# Altium footprint library PcbLib2.PcbLib: 16 footprints
Each footprint in its own frame and in the unit in brackets; x right, y up, seen from the top. Pads: shape width x height; smd on the part's side, far side on the other; paste and mask are expansions set on the pad; w line width, h text height; cw(c..) or ccw(c..) is an arc to the next point about the centre after c.
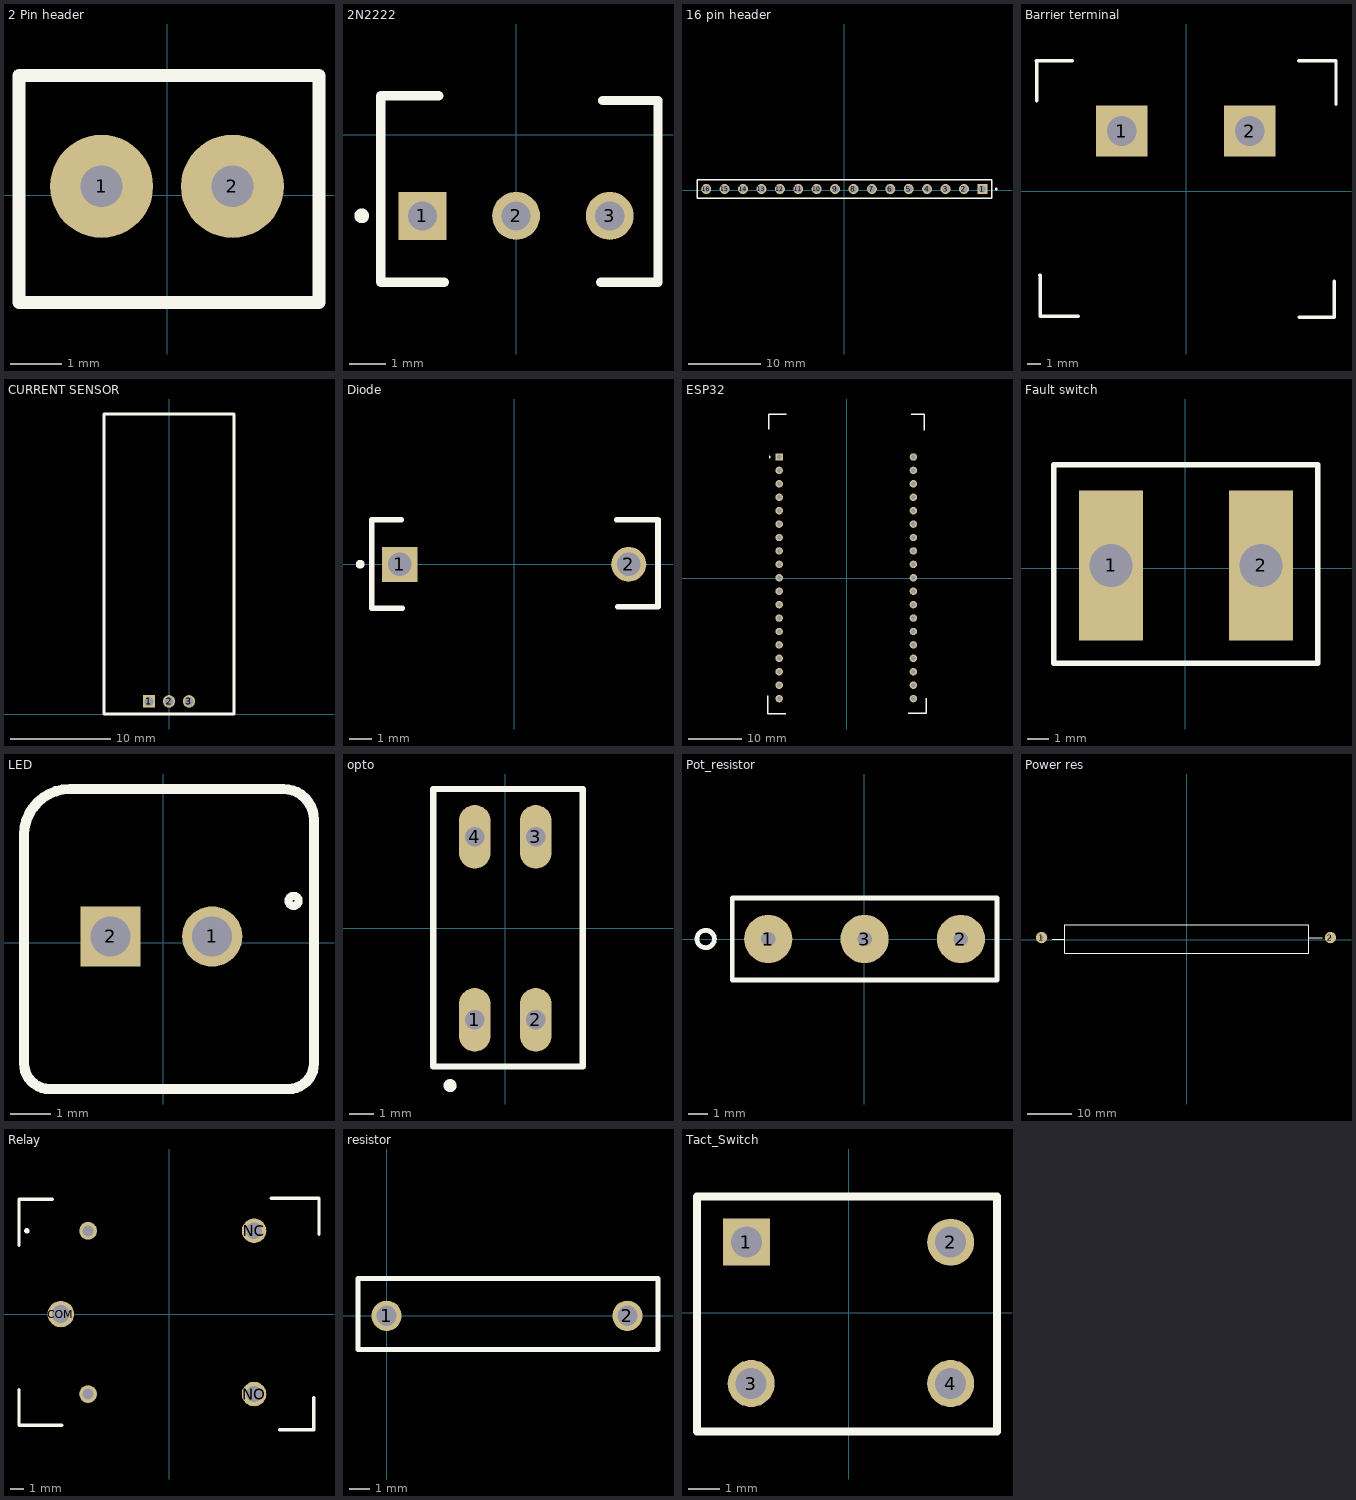
[diagram p0: the footprints below, top view; thin cyan lines are the x and y axes]

## 2 Pin header [mm]
pads (2):
  round 2 hole 0.813: 1(-1.27,0.177) 2(1.27,0.177)
Top Overlay:
  lines w0.254: -2.875,-2.075 2.95,-2.075 2.95,2.325 -2.875,2.325 -2.875,-2.075
MECH 29:
  text ".Designator" at -7.121,-0.313 h1.52

## 2N2222 [mm]
pads (3):
  rect 1.298x1.298 / inner round 1.298 / far side rect 1.298x1.298 hole 0.79 mask+0.102: 1(-2.54,-2.203)
  round 1.298 hole 0.79 mask+0.102: 2(0,-2.203) 3(2.54,-2.203)
Top Overlay:
  circle w0.2: c-4.189,-2.203 r0.1
  lines w0.254: -2.1,1.05 -3.675,1.05 -3.675,-4 -1.95,-4 ; 2.3,-4 3.85,-4 3.85,0.925 2.35,0.925
MECH 29:
  text ".Designator" at -7.871,-0.538 h1.52
3D body "step_temp.STEP": height 7.65, standoff -9.45, extent -2.74,-3.219 2.74,0.381

## 16 pin header [mm]
pads (16):
  rect 1.37x1.37 hole 1.02: 1(19.05,0.152)
  round 1.37 hole 1.02: 2(16.51,0.152) 3(13.97,0.152) 4(11.43,0.152) 5(8.89,0.152) 6(6.35,0.152) 7(3.81,0.152) 8(1.27,0.152) 9(-1.27,0.152) 10(-3.81,0.152) 11(-6.35,0.152) 12(-8.89,0.152) 13(-11.43,0.152) 14(-13.97,0.152) 15(-16.51,0.152) 16(-19.05,0.152)
Top Overlay:
  circle w0.2: c20.97,0.152 r0.1
  lines w0.2: -20.32,-1.092 20.32,-1.092 20.32,1.397 -20.32,1.397 -20.32,-1.092
MECH 29:
  text ".Designator" at -7.171,2.112 h1.52

## Barrier terminal [mm]
pads (2):
  rect 3.81x3.81 / inner round 3.81 / far side rect 3.81x3.81 hole 2.2 mask+0.102: 1(-4.787,4.476) 2(4.713,4.476)
Top Overlay:
  lines w0.254: -11.1,6.7 -11.1,9.7 -11.15,9.7 ; -11.025,9.7 -11.15,9.7 ; -10.875,-6.225 -10.85,-6.225 -10.85,-9.25 -8.025,-9.25 ; -8.45,9.7 -11.15,9.7 ; 8.325,9.7 11.1,9.7 11.1,6.45 ; 8.375,-9.35 10.975,-9.35 10.975,-6.65
MECH 29:
  text ".Designator" at -7.246,-0.313 h1.52
3D body "step_temp.STEP": height 14.2, standoff -6.2, extent -10.287,-8.646 10.113,9.154

## CURRENT SENSOR [mm]
pads (3):
  rect 1.24x1.24 hole 0.89: 1(-2,1.27)
  round 1.24 hole 0.89: 2(0,1.27) 3(2,1.27)
Top Overlay:
  lines w0.254: -6.5,0 -6.5,30 6.5,30 6.5,0 0,0 -6.5,0
MECH 29:
  text ".Designator" at -6.496,-1.238 h1.52

## Diode [mm]
pads (2):
  rect 1.59x1.59 / inner round 1.59 / far side rect 1.59x1.59 hole 1.06: 1(-5.197,0)
  round 1.59 hole 1.06: 2(5.197,0)
Top Overlay:
  circle w0.2: c-6.992,0 r0.1
  lines w0.254: -5.125,2.025 -6.475,2.025 -6.475,-2 -5.075,-2 ; 4.65,2.025 6.525,2.025 6.525,-1.925 4.7,-1.925
MECH 29:
  text ".Designator" at -8.271,1.437 h1.52
3D body "step_temp.STEP": height 2.68, standoff -21.77, extent -5.474,-1.346 5.474,1.346

## ESP32 [mil]
pads (38):
  rect 55.43x55.43 / inner round 55.43 / far side rect 55.43x55.43 hole 35.43: J2_1(-505,904.02)
  round 55.43 hole 35.43: J2_2(-505,804.02) J2_3(-505,704.02) J2_4(-505,604.02) J2_5(-505,504.02) J2_6(-505,404.02) J2_7(-505,304.02) J2_8(-505,204.02) J2_9(-505,104.02) J2_10(-505,4.02) J2_11(-505,-95.98) J2_12(-505,-195.98) J2_13(-505,-295.98) J2_14(-505,-395.98) J2_15(-505,-495.98) J2_16(-505,-595.98) J2_17(-505,-695.98) J2_18(-505,-795.98) J2_19(-505,-895.98) J3_1(495,904.02) J3_2(495,804.02) J3_3(495,704.02) J3_4(495,604.02) J3_5(495,504.02) J3_6(495,404.02) J3_7(495,304.02) J3_8(495,204.02) J3_9(495,104.02) J3_10(495,4.02) J3_11(495,-95.98) J3_12(495,-195.98) J3_13(495,-295.98) J3_14(495,-395.98) J3_15(495,-495.98) J3_16(495,-595.98) J3_17(495,-695.98) J3_18(495,-795.98) J3_19(495,-895.98)
Top Overlay:
  circle w7.87: c-575.87,904.02 r3.94
  lines w10: -589.57,-873.03 -589.57,-1010.83 -455.71,-1010.83 ; -582.68,1112.2 -582.68,1224.41 -451.77,1224.41 ; 457.68,-1003.94 590.55,-1003.94 590.55,-891.73 ; 477.36,1224.41 575.79,1224.41 575.79,1104.33
MECH 29:
  text ".Designator" at 9.02,33.93 h60
3D body "step_temp.STEP": height 263.39, standoff -236.22, extent -555,-971.38 545,1197.91

## Fault switch [mm]
pads (2):
  rect 3x7 hole 2 square: 1(-3.454,0.127) 2(3.546,0.127)
Top Overlay:
  lines w0.254: -6.121,-4.445 6.198,-4.445 6.198,4.826 -6.121,4.826 -6.121,-4.445
MECH 29:
  text ".Designator" at -8.921,-0.163 h1.52

## LED [mm]
pads (2):
  round 1.508 hole 1: 1(1.22,0.152)
  rect 1.508x1.508 / inner round 1.508 / far side rect 1.508x1.508 hole 1: 2(-1.32,0.152)
Top Overlay:
  circle w0.2: c3.252,1.041 r0.127
  lines w0.254: -3.479,-3.023 ccw(c-2.844,-3.023) -2.844,-3.658 3.125,-3.658 ccw(c3.125,-3.023) 3.76,-3.023 3.76,3.073 ccw(c2.998,3.073) 2.998,3.835 0.204,3.835 -2.336,3.835 ccw(c-2.336,2.692) -3.479,2.692 -3.479,-3.023
MECH 29:
  text ".Designator" at -8.432,-0.61 h1.52
3D body "step_temp.STEP": height 9.6, standoff -26, extent -2.55,-2.798 2.9,3.102

## opto [mil]
pads (4):
  oval 52x104 hole 32: 1(-50,-150) 2(50,-150) 3(50,150) 4(-50,150)
Top Overlay:
  circle w10: c-90.55,-257.87 r5.57
  lines w10: -118.11,-226.38 -118.11,228.35 -87.6,228.35 126.97,228.35 126.97,-226.38 -118.11,-226.38
MECH 29:
  text ".Designator" at -303.98,-12.33 h60
3D body "step_temp.STEP": height 179.13, standoff -141.73, extent -90.55,-154.92 90.55,154.92

## Pot_resistor [mil]
pads (3):
  round 100 hole 30: 1(-199.02,0) 2(200.98,0) 3(0.98,0)
Top Overlay:
  circle w10: c-329.02,0 r18.03
  lines w10: -274.02,-85 275.98,-85 275.98,85 -274.02,85 -274.02,-85
MECH 29:
  text ".Designator" at -308.9,65.43 h60
3D body "6008-1002-030.STEP": height 807.69, standoff -94.95, extent -333.65,-352.36 416.32,747.64

## Power res [mil]
pads (2):
  round 100 hole 30: 1(-1285.98,19.98) 2(1273.07,19.98)
Top Overlay:
  lines w10: -1191.98,6.98 -1078.98,6.98 ; 1081.02,17.48 1102.52,17.48 1155.52,17.48 1199.02,17.48 ; -1078.98,-117.02 1081.02,-117.02 1081.02,132.98 -1078.98,132.98 -1078.98,-117.02
MECH 29:
  text ".Designator" at 11.97,32.95 h60

## Relay [mm]
pads (5):
  round 1.308 hole 0.8: COIL1(-5.973,6.127) COIL2(-5.973,-5.873)
  round 1.95 hole 1.3: COM(-7.973,0.007)
  round 1.8 hole 1.2: NC(6.227,6.127) NO(6.227,-5.873)
Top Overlay:
  circle w0.2: c-10.473,6.127 r0.1
  lines w0.254: -11.05,-5.55 -11.05,-8.175 -7.9,-8.175 ; -11.05,5.05 -11.05,8.45 -8.6,8.45 ; 7.5,8.525 10.925,8.525 11,8.525 11,5.875 ; 8.1,-8.5 10.6,-8.5 10.6,-6.125
MECH 29:
  text ".Designator" at -5.046,0.112 h1.52
3D body "step_temp.STEP": height 15.8, standoff -3, extent -9.473,-7.673 9.727,7.927

## resistor [mm]
pads (2):
  round 1.508 hole 1 mask+0.102: 1(0,0) 2(12,0)
Top Overlay:
  lines w0.254: -1.425,-1.675 13.525,-1.675 13.525,1.85 -1.425,1.85 -1.425,-1.675
MECH 29:
  text ".Designator" at 0.762,-0.635 h1.52

## Tact_Switch [mm]
pads (4):
  rect 1.498x1.498 / inner round 1.498 / far side rect 1.498x1.498 hole 0.99: 1(-3.25,2.25)
  round 1.498 hole 0.99: 2(3.25,2.25) 3(-3.1,-2.25) 4(3.25,-2.25)
Top Overlay:
  lines w0.254: -4.825,-3.775 4.725,-3.775 4.725,3.7 -4.825,3.7 -4.825,-3.775
MECH 29:
  text "'Designator" at -3.55,-0.142 h0.7
3D body "step_temp.STEP": height 17.01, standoff -3.51, extent -3.898,-2.995 3.9,2.995

## TRansformer [mil]